# Altium footprint library Alt_git.PcbLib: 89 footprints (part 6 of 6)
Each footprint in its own frame and in the unit in brackets; x right, y up, seen from the top. Pads: shape width x height; smd on the part's side, far side on the other; paste and mask are expansions set on the pad; w line width, h text height; cw(c..) or ccw(c..) is an arc to the next point about the centre after c.
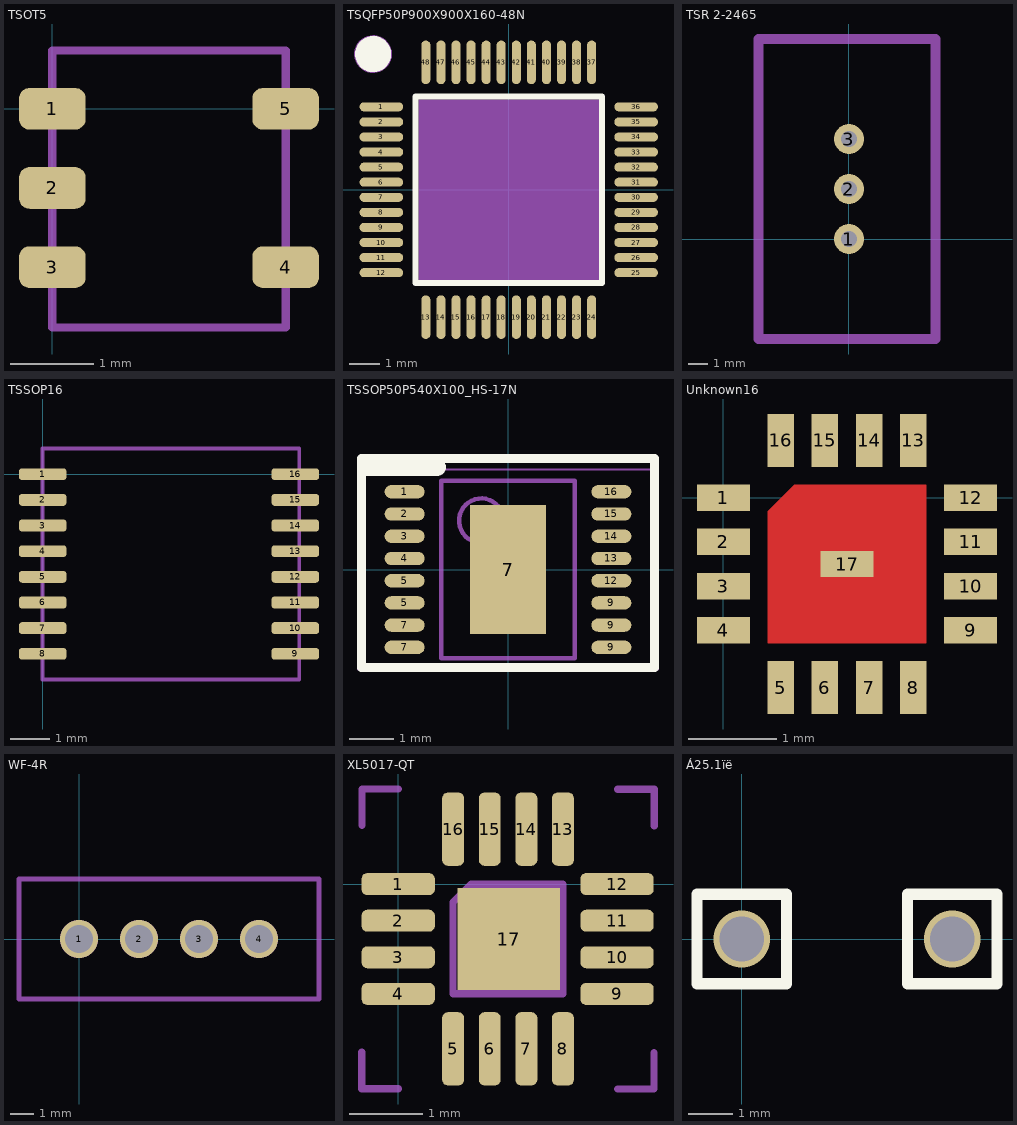
[diagram p5: the footprints below, top view; thin cyan lines are the x and y axes]

## TSOT5 [mm]
pads (5):
  rrect50% 0.8x0.5 smd: 1(0,0) 2(0,-0.95) 3(0,-1.9) 4(2.8,-1.9) 5(2.8,0)
Mechanical 15:
  lines w0.1: 0,-2.625 0,0.7 2.8,0.7 2.8,-2.625 0,-2.625
3D body: height 0.9, standoff -0.04, extent 0,-2.4 2.775,0.5

## TSQFP50P900X900X160-48N [mm] "TSQFP, 48-Leads, Body 7,00x7,00mm, Pitch 0,50mm, IPC Medium Density"
height 1
pads (48):
  oval 1.45x0.3 smd: 1(-4.225,2.75) 2(-4.225,2.25) 3(-4.225,1.75) 4(-4.225,1.25) 5(-4.225,0.75) 6(-4.225,0.25) 7(-4.225,-0.25) 8(-4.225,-0.75) 9(-4.225,-1.25) 10(-4.225,-1.75) 11(-4.225,-2.25) 12(-4.225,-2.75) 25(4.225,-2.75) 26(4.225,-2.25) 27(4.225,-1.75) 28(4.225,-1.25) 29(4.225,-0.75) 30(4.225,-0.25) 31(4.225,0.25) 32(4.225,0.75) 33(4.225,1.25) 34(4.225,1.75) 35(4.225,2.25) 36(4.225,2.75)
  oval 0.3x1.45 smd: 13(-2.75,-4.225) 14(-2.25,-4.225) 15(-1.75,-4.225) 16(-1.25,-4.225) 17(-0.75,-4.225) 18(-0.25,-4.225) 19(0.25,-4.225) 20(0.75,-4.225) 21(1.25,-4.225) 22(1.75,-4.225) 23(2.25,-4.225) 24(2.75,-4.225) 37(2.75,4.225) 38(2.25,4.225) 39(1.75,4.225) 40(1.25,4.225) 41(0.75,4.225) 42(0.25,4.225) 43(-0.25,4.225) 44(-0.75,4.225) 45(-1.25,4.225) 46(-1.75,4.225) 47(-2.25,4.225) 48(-2.75,4.225)
Top Overlay:
  circle w0.6: c-4.5,4.5 r0.3
  lines w0.2: -3.1,-3.1 3.1,-3.1 3.1,3.1 -3.1,3.1 -3.1,-3.1
DD_top:
  circle w0.254: c-4.5,4.5 r0.5
  rectangle: -3,-3 3,3
3D body: height 1.6, standoff 0.06, extent -4.5,-4.506 4.506,4.5

## TSR 2-2465 [mil]
pads (3):
  round 60 hole 29.53: 1(0,0) 2(0,100) 3(0,200)
via 0,200 diameter 49.21 hole 31.5
via 0,100 diameter 49.21 hole 31.5
via 0,0 diameter 49.21 hole 31.5
Top Paste:
  circle w15.75: c0,0 r20.47
  circle w15.75: c0,100 r20.47
  circle w15.75: c0,200 r20.47
Bottom Paste:
  circle w15.75: c0,0 r20.47
  circle w15.75: c0,100 r20.47
  circle w15.75: c0,200 r20.47
Connect:
  lines w19.68: -181.1,-200 173.23,-200 173.23,400 -181.1,400 -181.1,-200
3D body: height 397.64, standoff -181.1, extent -153.54,-177.17 147.65,374.01

## TSSOP16 [mm]
pads (16):
  rrect50% 1.2x0.3 smd: 1(0,0) 2(0,-0.65) 3(0,-1.3) 4(0,-1.95) 5(0,-2.6) 6(0,-3.25) 7(0,-3.9) 8(0,-4.55) 9(6.4,-4.55) 10(6.4,-3.9) 11(6.4,-3.25) 12(6.4,-2.6) 13(6.4,-1.95) 14(6.4,-1.3) 15(6.4,-0.65) 16(6.4,0)
Mechanical 15:
  lines w0.1: 0,-5.2 6.5,-5.2 6.5,0.65 0,0.65 0,-5.2

## TSSOP50P540X100_HS-17N [mm] "TSSOP, 16-Leads, Body 4,00x3,00mm, Pitch 0,50mm, Thermal Pad 2,90x1,70mm, IPC Medium Density"
height 1
pads (17):
  oval 0.9x0.3 smd: 1(-2.325,1.75) 2(-2.325,1.25) 3(-2.325,0.75) 4(-2.325,0.25) 5(-2.325,-0.75) 5(-2.325,-0.25) 7(-2.325,-1.75) 7(-2.325,-1.25) 9(2.325,-1.75) 9(2.325,-1.25) 9(2.325,-0.75) 12(2.325,-0.25) 13(2.325,0.25) 14(2.325,0.75) 15(2.325,1.25) 16(2.325,1.75)
  rect 1.7x2.9 smd: 7(0,0)
Top Overlay:
  lines w0.2: -3.3,-2.2 -3.3,2.5 3.3,2.5 3.3,-2.2 -3.3,-2.2
  lines w0.4: -3.2,2.3 -1.6,2.3
IND_top:
  circle w0.1: c-0.6,1.1 r0.5
  lines w0.1: -1.5,-2 -1.5,2 1.5,2 1.5,-2 -1.5,-2
Mechanical 15:
  lines w0.05: -3.375,-2.25 -3.375,2.25 3.375,2.25 3.375,-2.25 -3.375,-2.25
  lines w0.1: -0.5,0 0.5,0 ; 0,-0.5 0,0.5
3D body: height 1, standoff 0.1, extent -1.5,-2 1.5,2

## Unknown16 [mm]
pads (17):
  rect 0.6x0.3 smd: 1(0,0) 2(0,-0.5) 3(0,-1) 4(0,-1.5) 9(2.8,-1.5) 10(2.8,-1) 11(2.8,-0.5) 12(2.8,0) 17(1.4,-0.75)
  rect 0.3x0.6 smd: 5(0.65,-2.15) 6(1.15,-2.15) 7(1.65,-2.15) 8(2.15,-2.15) 13(2.15,0.65) 14(1.65,0.65) 15(1.15,0.65) 16(0.65,0.65)
Top Layer:
  region: 0.5,-0.15 0.5,-1.65 2.3,-1.65 2.3,0.15 0.8,0.15

## WF-4R [mm]
pads (4):
  rect 0.5x0.5 smd paste+0: 1(0,0) 2(2.54,0) 3(5.08,0) 4(7.62,0)
via 0,0 diameter 1.6 hole 1.2
via 2.54,0 diameter 1.6 hole 1.2
via 7.62,0 diameter 1.6 hole 1.2
via 5.08,0 diameter 1.6 hole 1.2
Top Paste:
  circle w0.2: c0,0 r0.7
  circle w0.2: c2.54,0 r0.7
  circle w0.2: c5.08,0 r0.7
  circle w0.2: c7.62,0 r0.7
Bottom Paste:
  circle w0.2: c0,0 r0.7
  circle w0.2: c2.54,0 r0.7
  circle w0.2: c5.08,0 r0.7
  circle w0.2: c7.62,0 r0.7
Connect:
  circle w0.254: c7.62,0 r0.68
  circle w0.254: c5.08,0 r0.68
  circle w0.254: c2.54,0 r0.68
  circle w0.254: c0,0 r0.68
  lines w0.2: -2.54,-2.54 -2.54,2.54 10.16,2.54 10.16,0 10.16,-2.54 -2.54,-2.54
3D body: height 5.8, standoff -6.9, extent -1.3,-13.4 8.9,0.4

## XL5017-QT [mm]
pads (17):
  rrect50% 1x0.3 smd paste+0: 1(0,0) 2(0,-0.5) 3(0,-1) 4(0,-1.5) 9(2.99,-1.5) 10(2.99,-1) 11(2.99,-0.5) 12(2.99,0)
  rrect50% 0.3x1 smd paste+0: 5(0.75,-2.25) 6(1.25,-2.25) 7(1.75,-2.25) 8(2.25,-2.25) 13(2.25,0.75) 14(1.75,0.75) 15(1.25,0.75) 16(0.75,0.75)
  rect 1.4x1.4 smd paste+0: 17(1.51,-0.75)
Mechanical 15:
  lines w0.1: -0.499,-2.295 -0.499,-2.794 0,-2.794 ; -0.494,0.8 -0.494,1.299 0.005,1.299 ; 2.995,-2.799 3.494,-2.799 3.494,-2.3 ; 3,1.294 3.499,1.294 3.499,0.795 ; 0.748,-1.497 0.748,-0.249 0.998,0 2.245,0 2.245,-1.497 0.748,-1.497
3D body: height 1.1, standoff 0, extent -0.006,-2.245 2.994,0.754

## Á25.1ïë [mm]
pads (2):
  rect 0.1x0.1 smd paste+0: 1(0,0) 2(4.7,0)
via 4.7,0 diameter 1.27 hole 1
via 0,0 diameter 1.27 hole 1
Top Overlay:
  lines w0.254: -1,-1 -1,1 1,1 1,-1 -1,-1 ; 3.7,-1 3.7,1 5.7,1 5.7,-1 3.7,-1
3D body: height 2.7, standoff -0.35, extent -0.399,-0.7 4.999,0.697